# Altium schematic symbol library HMC717ALP3E.SchLib: 1 symbol
Pins are listed as number, name and electrical type; pins without a type are passive.

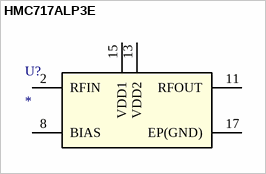
[diagram p0: symbol HMC717ALP3E]

## HMC717ALP3E
designator U?
Ga As pHEMT MMIC LOW NOISE AMPLIFIER, 4.8 - 6.0 GHz; Copyright: Copyright (C) 2018 Accelerated Designs. All rights reserved; RefDes: RefDes; Type: DEV; Value: Value
footprint HCP_16_3
pins: 2 RFIN, 8 BIAS, 11 RFOUT, 13 VDD2, 15 VDD1, 17 EP(GND)